# Altium schematic symbol library SENtral.SchLib: 1 symbol
Pins are listed as number, name and electrical type; pins without a type are passive.

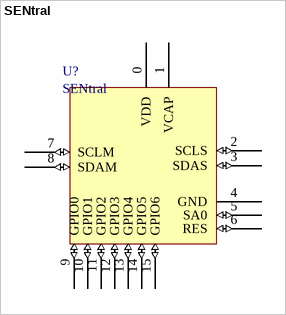
[diagram p0: symbol SENtral]

## SENtral
designator U?
footprint BGA16C40P4X4_160X160X51 (BGA, 16-Leads, Body 1.60x1.60mmx0.51mm, Pitch 0.40mm)
pins: 0 VDD (power), 1 VCAP, 2 SCLS (io), 3 SDAS (io), 4 GND (power), 5 SA0 (io), 6 RES (io), 7 SCLM (io), 8 SDAM (io), 9 GPIO0 (io), 10 GPIO1 (io), 11 GPIO2 (io), 12 GPIO3 (io), 13 GPIO4 (io), 14 GPIO5 (io), 15 GPIO6 (io)